# Altium footprint library ACDC.PcbLib: 3 footprints
Each footprint in its own frame and in the unit in brackets; x right, y up, seen from the top. Pads: shape width x height; smd on the part's side, far side on the other; paste and mask are expansions set on the pad; w line width, h text height; cw(c..) or ccw(c..) is an arc to the next point about the centre after c.
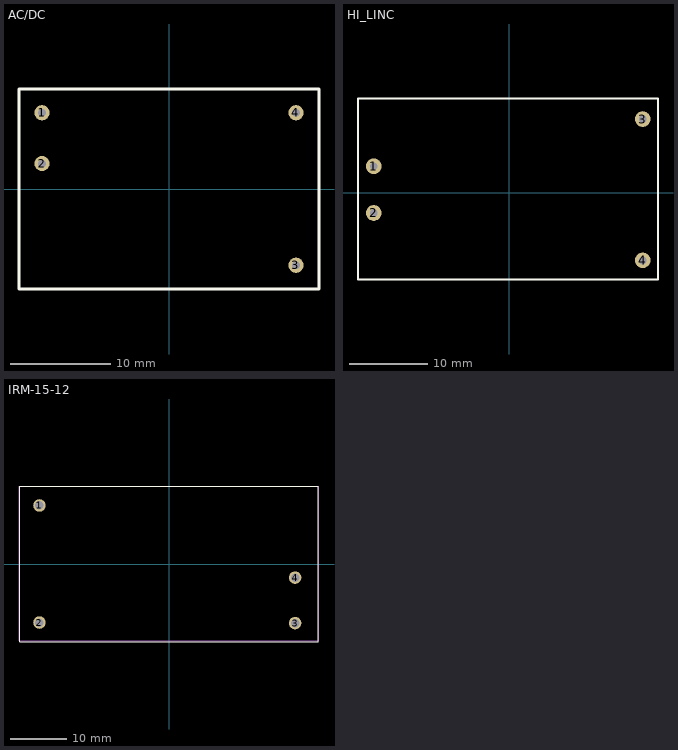
[diagram p0: the footprints below, top view; thin cyan lines are the x and y axes]

## AC/DC [mil]
pads (4):
  round 60 hole 30: 1(-500,300) 2(-500,100) 3(500,-300) 4(500,300)
Top Overlay:
  lines w10: -590.55,-393.7 -590.55,393.7 590.55,393.7 590.55,-393.7 -590.55,-393.7
3D body: height 590.55, standoff 0, extent -600,-400 600,400

## HI_LINC [mm]
pads (4):
  round 2 hole 1: 1(-17.297,3.378) 2(-17.297,-2.591) 3(17.018,9.398) 4(17.018,-8.636)
Top Overlay:
  lines w0.254: -19.304,-11.074 -19.304,11.989 -19.279,12.014 18.974,12.014 18.974,-11.074 -19.304,-11.074
3D body "HI-LINK.step": height 18, standoff -5, extent -19.127,-11.119 18.873,11.881

## IRM-15-12 [mm]
pads (4):
  round 2.2 hole 1.5: 1(-22.8,10.3) 2(-22.8,-10.3) 3(22.2,-10.4) 4(22.2,-2.4)
Top Overlay:
  lines w0.2: -26.3,-13.7 -26.3,13.7 26.3,13.7 26.3,-13.7 -26.3,-13.7
Top_ass:
  lines w0.2: -26.4,-13.5 -26.4,13.7 26.4,13.7 26.4,-13.5 -26.4,-13.5
  text ".Designator" at -5.8,-0.2 h1.52
3D body "IRM-15-12.STEP": height 24, standoff -3.5, extent -26.2,-13.6 26.2,13.6